# EAGLE library part 691401700017 (library Terminal_Blocks_Connectors_rev15e)
WR-TBL Terminal block - serie 401 5,0mm - Spring clamp/Screw less - Vertical entry - 17p Code:Con_TBL_Screwless_5.00_6914017000xx_691401700017 <http://katalog.we-online.de/media/images/eican/Con_TBL_Screwless_5.00_6914017000xx_pf2.jpg> Details see: http://katalog.we-online.de/en/em/691_401_700_0xx/691_401_700_017?m Created 2014-12-22, aslant tao 2014 (C) Würth Elektronik
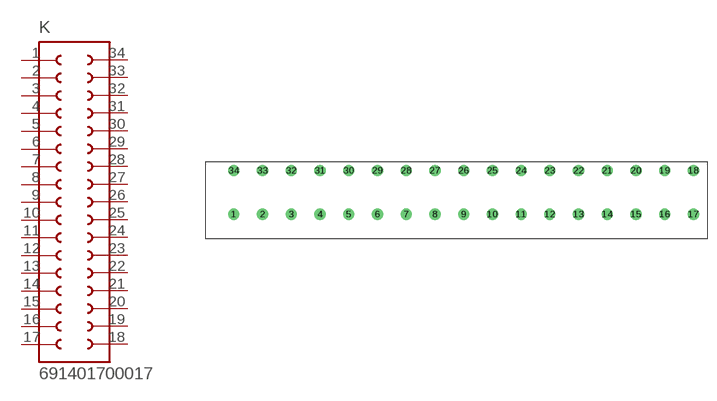
[diagram p273: symbol with the pads of 691401700017; footprint 691401700017]

Designator prefix K

## 691401700017  [691401700017]
1  1  pas
2  2  pas
3  3  pas
4  4  pas
5  5  pas
6  6  pas
7  7  pas
8  8  pas
9  9  pas
10  10  pas
11  11  pas
12  12  pas
13  13  pas
14  14  pas
15  15  pas
16  16  pas
17  17  pas
18  18  pas
19  19  pas
20  20  pas
21  21  pas
22  22  pas
23  23  pas
24  24  pas
25  25  pas
26  26  pas
27  27  pas
28  28  pas
29  29  pas
30  30  pas
31  31  pas
32  32  pas
33  33  pas
34  34  pas

## Footprint 691401700017 (pad centres in mm)
WR-TBL Serie 401 - 5.0mm Screwless Vertikal Entry - 2 mm2 Wires, 17 Pins
drill 1.3: 1 0,0; 2 5,0; 3 10,0; 4 15,0; 5 20,0; 6 25,0; 7 30,0; 8 35,0; 9 40,0; 10 45,0; 11 50,0; 12 55,0; 13 60,0; 14 65,0; 15 70,0; 16 75,0; 17 80,0; 18 80,7.62; 19 75,7.62; 20 70,7.62; 21 65,7.62; 22 60,7.62; 23 55,7.62; 24 50,7.62; 25 45,7.62; 26 40,7.62; 27 35,7.62; 28 30,7.62; 29 25,7.62; 30 20,7.62; 31 15,7.62; 32 10,7.62; 33 5,7.62; 34 0,7.62